# Altium footprint library 研发中心PCB库文件.PcbLib: 333 footprints (part 2 of 21)
Each footprint in its own frame and in the unit in brackets; x right, y up, seen from the top. Pads: shape width x height; smd on the part's side, far side on the other; paste and mask are expansions set on the pad; w line width, h text height; cw(c..) or ccw(c..) is an arc to the next point about the centre after c.
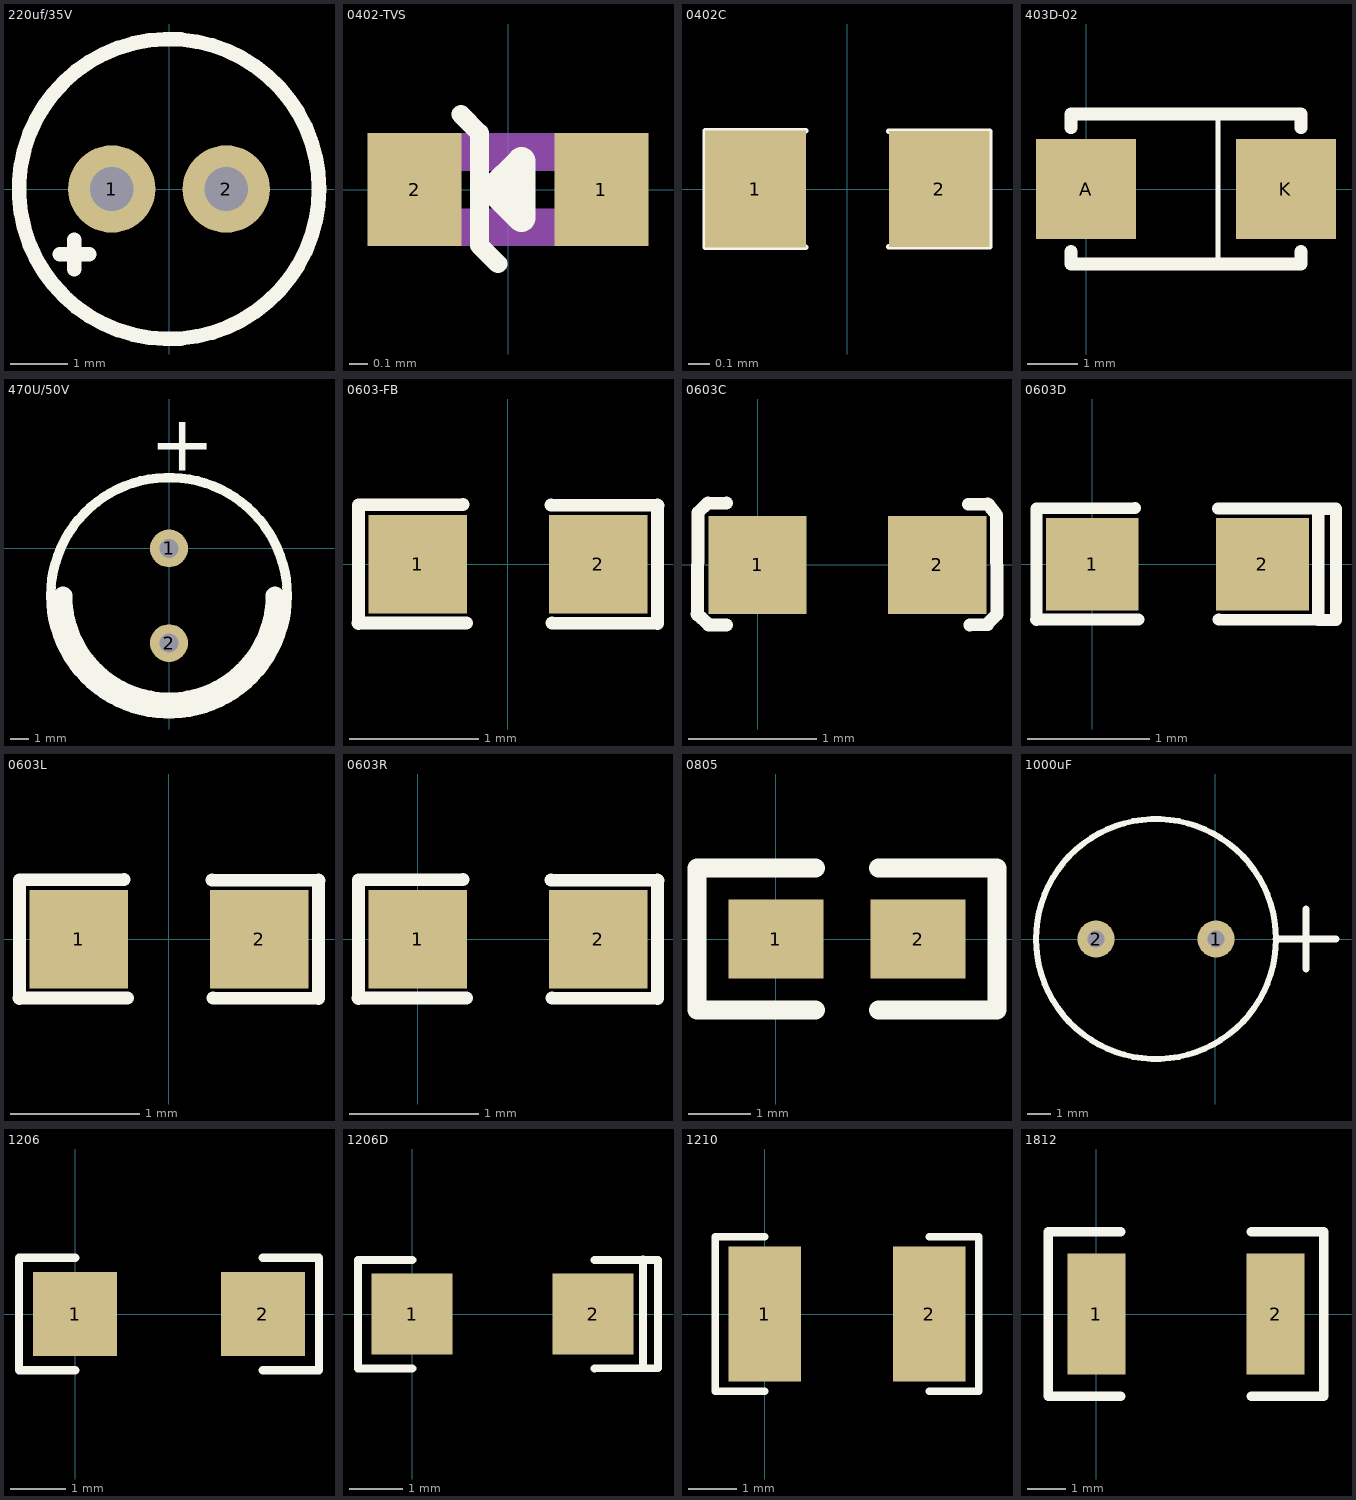
[diagram p1: the footprints below, top view; thin cyan lines are the x and y axes]

## 220uf/35V [mil]
height 454.72
pads (2):
  round 60 hole 30: 1(-39.37,0) 2(39.37,0)
Top Overlay:
  circle w10: c0,0 r103.15
  lines w10: -75,-45 -55,-45 ; -65,-55 -65,-35

## 0402-TVS [mil]
pads (2):
  rect 20x24 smd: 1(19.84,0) 2(-19.84,0)
Top Overlay:
  lines w4: -10,16 -6.06,12 -6.06,-11.81 -2.13,-15.75
  lines w6: -3.16,0 2.84,0 ; -3.16,0 2.84,-6 2.84,0 ; -3.16,0 2.84,6 2.84,0
Mechanical 16:
  rectangle: 15.84,-12 27.84,12
  rectangle: -28.16,-12 -16.16,12
  lines w8: -20.16,-8 19.84,-8 ; -20.16,8 19.84,8

## 0402C [mm]
pads (2):
  rect 0.48x0.555 smd: 1(-0.437,0)
  rect 0.48x0.55 smd: 2(0.437,0)
Top Overlay:
  lines w0.025: -0.198,-0.277 -0.677,-0.277 -0.677,0.278 -0.198,0.278 ; 0.198,-0.275 0.677,-0.275 0.677,0.275 0.198,0.275

## 403D-02 [mm]
pads (2):
  rect 2x2 smd: A(0,0) K(4,0)
Top Overlay:
  lines w0.1: 2.642,-1.5 2.642,1.5
  lines w0.254: -0.3,-1.249 -0.3,-1.5 4.3,-1.5 4.3,-1.252 ; -0.3,1.224 -0.3,1.5 4.3,1.5 4.3,1.227

## 470U/50V [mm]
pads (2):
  round 2 hole 1: 1(0,0) 2(0,-5)
Top Overlay:
  circle w0.5: c0,-2.5 r6.25
  lines w1: -5.611,-2.5 ccw(c0,-2.5) 5.611,-2.5
  text "+" at -1.016,4.104 h3

## 0603-FB [mil]
pads (2):
  rect 30x30 smd: 1(-27.5,0) 2(27.5,0)
Top Overlay:
  lines w3.94: -45.65,-17.87 -12.63,-17.87 ; -45.51,-18.01 -45.51,18.06 -13.66,18.21 ; 13.11,18.06 45.66,17.92 ; 13.39,-17.87 45.52,-18.01 45.52,18.06

## 0603C [mil]
pads (2):
  rect 30x30 smd: 1(0,0) 2(55,0)
Top Overlay:
  lines w3.94: -18.52,-14.99 -14.85,-18.37 ; -18.37,-15.27 -18.23,15.75 ; -18.23,16.03 -15.13,18.99 ; -14.99,-18.37 -9.49,-18.43 ; -14.29,18.85 -9.49,18.99 ; 64.52,18.57 70.6,18.57 ; 64.93,-18.33 70.44,-18.22 ; 70.32,-18.09 73.28,-15.13 ; 70.46,18.71 73.14,15.33 ; 73.14,15.04 73.28,-14.43

## 0603D [mil]
pads (2):
  rect 30x30 smd: 1(0,0) 2(55,0)
Top Overlay:
  lines w3.94: -18.15,-17.87 14.87,-17.87 ; -18.01,-18.01 -18.01,18.06 13.84,18.2 ; 40.61,18.06 73.16,17.92 78.74,17.92 78.74,-17.92 ; 40.89,-17.87 73.02,-18.01 ; 73.02,18.06 73.02,-18.01 ; 78.74,-18.01 73.02,-18.01

## 0603L [mil]
pads (2):
  rect 30x30 smd: 1(-27.5,0) 2(27.5,0)
Top Overlay:
  lines w3.94: -45.65,-17.87 -12.63,-17.87 ; -45.51,-18.01 -45.51,18.06 -13.66,18.21 ; 13.11,18.06 45.66,17.92 ; 13.39,-17.87 45.52,-18.01 45.52,18.06

## 0603R [mil]
pads (2):
  rect 30x30 smd: 1(0,0) 2(55,0)
Top Overlay:
  lines w3.94: -18.15,-17.87 14.87,-17.87 ; -18.01,-18.01 -18.01,18.06 13.84,18.2 ; 40.61,18.06 73.16,17.92 ; 40.89,-17.87 73.02,-18.01 73.02,18.06

## 0805 [mil]
pads (2):
  rect 60x50 smd: 1(0,0) 2(90,0)
Top Overlay:
  lines w12: 25,-45 -50,-45 -50,45 25,45 ; 65,-45 140,-45 140,45 65,45

## 1000uF [mil]
pads (2):
  round 62 hole 28: 1(1.02,0.47) 2(-198.98,0.47)
Top Overlay:
  circle w10: c-98.98,0.47 r200
  lines w12: 101.02,0.47 201.02,0.47 ; 151.02,-49.53 151.02,50.47

## 1206 [mil]
pads (2):
  rect 60x60 smd: 1(0,0) 2(134.04,0)
Top Overlay:
  lines w6: 0,-40.16 -40.16,-40.16 -40.16,40.16 0,40.16 ; 134,-40.16 174.16,-40.16 174.16,40.16 134,40.16

## 1206D [mil]
pads (2):
  rect 60x60 smd: 1(0,0) 2(134.04,0)
Top Overlay:
  lines w6: 0,-40.16 -40.16,-40.16 -40.16,40.16 0,40.16 ; 135.04,-40.16 181.04,-40 ; 135.04,40.16 182.04,40 182.04,-40 ; 171.04,-40 171.04,40.31

## 1210 [mm]
pads (2):
  rect 1.5x2.8 smd: 1(0,0) 2(3.4,0)
Top Overlay:
  lines w0.152: 0,-1.6 -1.02,-1.6 -1.02,1.6 0,1.6 ; 3.404,-1.6 4.424,-1.6 4.424,1.6 3.404,1.6

## 1812 [mil]
pads (2):
  rect 60x125 smd: 1(0,0) 2(185,0)
Top Overlay:
  lines w10: 25,-85 -50,-85 -50,85 25,85 ; 160,-85 235,-85 235,85 160,85